# Altium footprint library Regulators.PcbLib: 10 footprints
Each footprint in its own frame and in the unit in brackets; x right, y up, seen from the top. Pads: shape width x height; smd on the part's side, far side on the other; paste and mask are expansions set on the pad; w line width, h text height; cw(c..) or ccw(c..) is an arc to the next point about the centre after c.
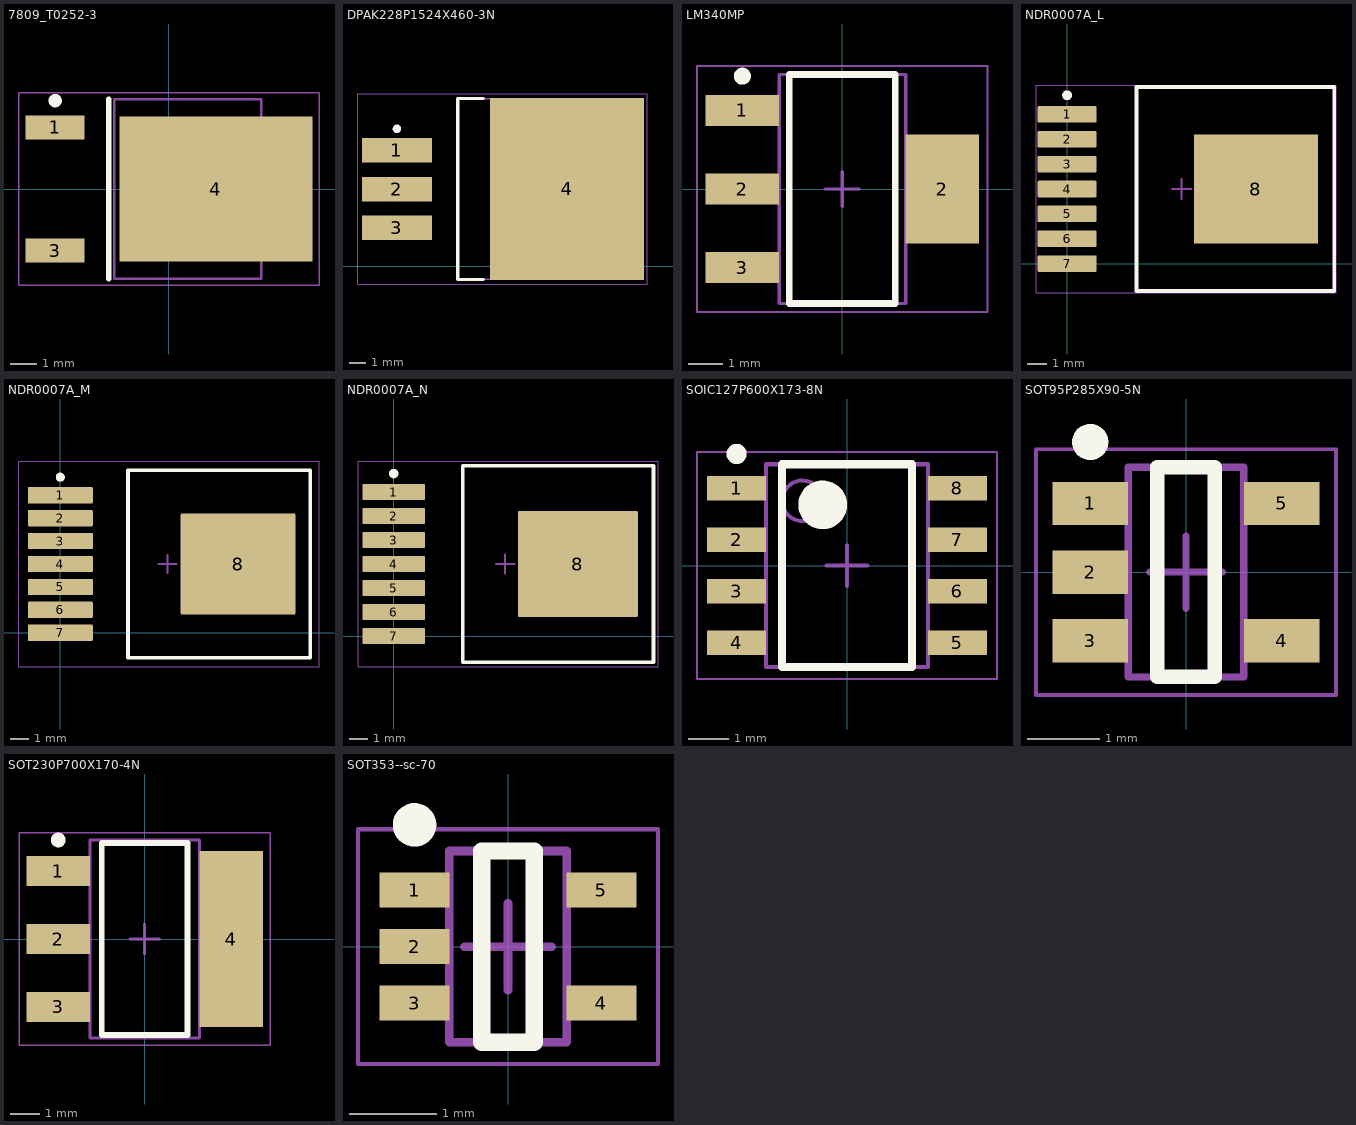
[diagram p0: the footprints below, top view; thin cyan lines are the x and y axes]

## 7809_T0252-3 [mm]
height 2.5
pads (3):
  rect 2.2x0.9 smd: 1(-4.25,2.3) 3(-4.25,-2.3)
  rect 7.2x5.4 smd: 4(1.75,0)
Top Overlay:
  circle w0.25: c-4.25,3.3 r0.125
  lines w0.2: -2.25,-3.35 -2.25,3.35
Mechanical 13:
  lines w0.1: -2.05,-3.35 3.45,-3.35 3.45,3.35 -2.05,3.35 -2.05,-3.35
Mechanical 15:
  lines w0.05: -5.6,-3.6 5.6,-3.6 5.6,3.6 -5.6,3.6 -5.6,-3.6
  lines w0.1: -0.5,0 0.5,0 ; 0,-0.5 0,0.5
3D body "7809_T0252-3.step": height 2.5, standoff 0, extent -4.5,-3.35 5,3.35

## DPAK228P1524X460-3N [mm] "D2-PAK, 3-Pads, Body 7.68x8.69mm (max), IPC Medium Density"
height 4.6
pads (4):
  rect 4.15x1.45 smd: 1(-22.85,6.84) 2(-22.85,4.554) 3(-22.85,2.28)
  rect 9.1x10.75 smd: 4(-12.8,4.56)
Top Overlay:
  circle w0.25: c-22.85,8.115 r0.125
  lines w0.2: -17.75,-0.79 -19.25,-0.79 -19.25,9.91 -17.75,9.91
Mechanical 13:
  lines w0.1: -19.25,-0.765 -19.25,9.885 -10.08,9.885 -10.08,-0.765 -19.25,-0.765
Mechanical 15:
  lines w0.05: -25.15,-1.065 -25.15,10.185 -8.05,10.185 -8.05,-1.065 -25.15,-1.065
  lines w0.1: -17.1,4.56 -16.1,4.56 ; -16.6,4.06 -16.6,5.06
3D body "DPAK228P1524X460-3N.step": height 4.6, standoff 0, extent -23.299,-0.765 -8.059,9.885

## LM340MP [mm] "SOT223 LM340MP Series"
height 1.8
pads (4):
  rect 2.15x0.9 smd: 1(-2.925,2.3) 2(-2.925,0) 3(-2.925,-2.3)
  rect 2.15x3.2 smd: 2(2.925,0)
Top Overlay:
  circle w0.25: c-2.925,3.3 r0.125
  lines w0.2: -1.55,-3.35 -1.55,3.35 1.55,3.35 1.55,-3.35 -1.55,-3.35
Mechanical 13:
  lines w0.1: -1.85,-3.35 -1.85,3.35 1.85,3.35 1.85,-3.35 -1.85,-3.35
Mechanical 15:
  lines w0.05: -4.25,-3.6 -4.25,3.6 4.25,3.6 4.25,-3.6 -4.25,-3.6
  lines w0.1: -0.5,0 0.5,0 ; 0,-0.5 0,0.5
3D body "LM340MP.step": height 1.8, standoff 0, extent -3.5,-3.35 3.5,3.35

## NDR0007A_L [mm]
pads (8):
  rrect12% 3x0.85 smd: 1(-0.008,7.62) 2(-0.008,6.35) 3(-0.008,5.08) 4(-0.008,3.81) 5(-0.008,2.54) 6(-0.008,1.27) 7(-0.008,0)
  rrect2% 6.35x5.59 smd: 8(9.642,3.81)
Top Overlay:
  circle w0.25: c-0.008,8.595 r0.125
  lines w0.2: 3.542,-1.39 3.542,9.01 13.642,9.01 13.642,-1.39 3.542,-1.39
Mechanical 1:
  text ".Designator" at 4.191,3.048 h1.5
Mechanical 13:
  lines w0.1: 3.542,-1.39 3.542,9.01 13.642,9.01 13.642,-1.39 3.542,-1.39
Mechanical 15:
  lines w0.05: -1.595,-1.49 -1.595,9.11 13.73,9.11 13.73,-1.49 -1.595,-1.49
  lines w0.1: 5.342,3.81 6.342,3.81 ; 5.842,3.31 5.842,4.31
3D body "NDR0007A.stp": height 2.17, standoff 0, extent -0.369,-1.27 13.642,8.89

## NDR0007A_M [mm]
pads (8):
  rrect11% 3.6x0.9 smd: 1(0,7.62) 2(0,6.35) 3(0,5.08) 4(0,3.81) 5(0,2.54) 6(0,1.27) 7(0,0)
  rrect2% 6.35x5.59 smd: 8(9.85,3.81)
Top Overlay:
  circle w0.25: c0,8.62 r0.125
  lines w0.2: 3.75,-1.39 3.75,9.01 13.85,9.01 13.85,-1.39 3.75,-1.39
Mechanical 1:
  text ".Designator" at 4.426,3.175 h1.5
Mechanical 13:
  lines w0.1: 3.75,-1.39 3.75,9.01 13.85,9.01 13.85,-1.39 3.75,-1.39
Mechanical 15:
  lines w0.05: -2.288,-1.89 -2.288,9.51 14.337,9.51 14.337,-1.89 -2.288,-1.89
  lines w0.1: 5.45,3.81 6.45,3.81 ; 5.95,3.31 5.95,4.31
3D body "NDR0007A.stp": height 2.17, standoff 0, extent -0.161,-1.27 13.85,8.89

## NDR0007A_N [mm]
pads (8):
  rrect12% 3.3x0.85 smd: 1(0,7.62) 2(0,6.35) 3(0,5.08) 4(0,3.81) 5(0,2.54) 6(0,1.27) 7(0,0)
  rrect2% 6.35x5.59 smd: 8(9.75,3.81)
Top Overlay:
  circle w0.25: c0,8.595 r0.125
  lines w0.2: 3.65,-1.39 13.75,-1.39 13.75,9.01 3.65,9.01 3.65,-1.39
Mechanical 1:
  text ".Designator" at 4.503,3.175 h1.5
Mechanical 13:
  lines w0.1: 3.65,-1.39 13.75,-1.39 13.75,9.01 3.65,9.01 3.65,-1.39
Mechanical 15:
  lines w0.05: -1.887,-1.64 13.988,-1.64 13.988,9.26 -1.887,9.26 -1.887,-1.64
  lines w0.1: 5.4,3.81 6.4,3.81 ; 5.9,3.31 5.9,4.31
3D body "NDR0007A.stp": height 2.17, standoff 0, extent -0.261,-1.27 13.75,8.89

## SOIC127P600X173-8N [mm] "SOIC, 8-Leads, Body 4.92x3.90mm, Pitch 1.27mm, IPC Medium Density"
height 1.73
pads (8):
  rect 1.45x0.6 smd: 1(-2.725,1.905) 2(-2.725,0.635) 3(-2.725,-0.635) 4(-2.725,-1.905) 5(2.725,-1.905) 6(2.725,-0.635) 7(2.725,0.635) 8(2.725,1.905)
Top Overlay:
  circle w0.25: c-2.725,2.755 r0.125
  circle w0.6: c-0.6,1.5 r0.3
  lines w0.2: -1.6,-2.5 -1.6,2.5 1.6,2.5 1.6,-2.5 -1.6,-2.5
Top Assembly:
  circle w0.1: c-1.1,1.6 r0.5
  lines w0.1: -2,-2.5 -2,2.5 2,2.5 2,-2.5 -2,-2.5
Top Courtyard:
  lines w0.05: -3.7,-2.8 -3.7,2.8 3.7,2.8 3.7,-2.8 -3.7,-2.8
  lines w0.1: -0.5,0 0.5,0 ; 0,-0.5 0,0.5
3D body "SOIC127P600X173-8N.step": height 1.73, standoff 0, extent -2.995,-2.5 2.995,2.5

## SOT95P285X90-5N [mm] "SOT23, 5-Leads, Body 2.90x2.85mm, Pitch 0.95mm, IPC Medium Density"
height 0.9
pads (5):
  rect 1.05x0.6 smd: 1(-1.325,0.95) 2(-1.325,0) 3(-1.325,-0.95) 4(1.325,-0.95) 5(1.325,0.95)
Top Overlay:
  circle w0.25: c-1.325,1.8 r0.125
  lines w0.2: -0.4,-1.45 -0.4,1.45 0.4,1.45 0.4,-1.45 -0.4,-1.45
Mechanical 13:
  lines w0.1: -0.8,-1.45 0.8,-1.45 0.8,1.45 -0.8,1.45 -0.8,-1.45
Mechanical 15:
  lines w0.05: -2.075,-1.7 2.075,-1.7 2.075,1.7 -2.075,1.7 -2.075,-1.7
  lines w0.1: -0.5,0 0.5,0 ; 0,-0.5 0,0.5
3D body "SOT95P285X90-5N.step": height 0.9, standoff 0, extent -1.45,-1.45 1.45,1.45

## SOT230P700X170-4N [mm] "SOT223, 4-Leads, Body 6.50x7.00mm (avg), Pitch 2.30mm, IPC Medium Density"
height 1.7
pads (4):
  rect 2.15x1 smd: 1(-2.925,2.3) 2(-2.925,0) 3(-2.925,-2.3)
  rect 2.15x5.95 smd: 4(2.925,0)
Top Overlay:
  circle w0.25: c-2.925,3.35 r0.125
  lines w0.2: -1.45,-3.25 1.45,-3.25 1.45,3.25 -1.45,3.25 -1.45,-3.25
Top Assembly:
  lines w0.1: -1.85,-3.35 1.85,-3.35 1.85,3.35 -1.85,3.35 -1.85,-3.35
Top Courtyard:
  lines w0.05: -4.25,-3.6 4.25,-3.6 4.25,3.6 -4.25,3.6 -4.25,-3.6
  lines w0.1: -0.5,0 0.5,0 ; 0,-0.5 0,0.5
3D body "SOT230P700X170-4N.step": height 1.76, standoff 0.06, extent -3.5,-3.35 3.5,3.35

## SOT353--sc-70 [mm] "SOT23, 5-Leads, Body 2.00x2.10mm, Pitch 0.65mm, IPC Medium Density"
height 1.1
pads (5):
  rect 0.8x0.4 smd: 1(-1.075,0.65) 2(-1.075,0) 3(-1.075,-0.65) 4(1.075,-0.65) 5(1.075,0.65)
Top Overlay:
  circle w0.25: c-1.075,1.4 r0.125
  lines w0.2: -0.3,-1.1 0.3,-1.1 0.3,1.1 -0.3,1.1 -0.3,-1.1
Mechanical 13:
  lines w0.1: -0.675,-1.1 -0.675,1.1 0.675,1.1 0.675,-1.1 -0.675,-1.1
Mechanical 15:
  lines w0.05: -1.725,-1.35 -1.725,1.35 1.725,1.35 1.725,-1.35 -1.725,-1.35
  lines w0.1: -0.5,0 0.5,0 ; 0,-0.5 0,0.5
3D body "SOT353--sc-70.step": height 1.1, standoff 0, extent -1.2,-1.1 1.2,1.1